# Altium footprint library AFA07S20FCA00.PcbLib: 1 footprints
Each footprint in its own frame and in the unit in brackets; x right, y up, seen from the top. Pads: shape width x height; smd on the part's side, far side on the other; paste and mask are expansions set on the pad; w line width, h text height; cw(c..) or ccw(c..) is an arc to the next point about the centre after c.
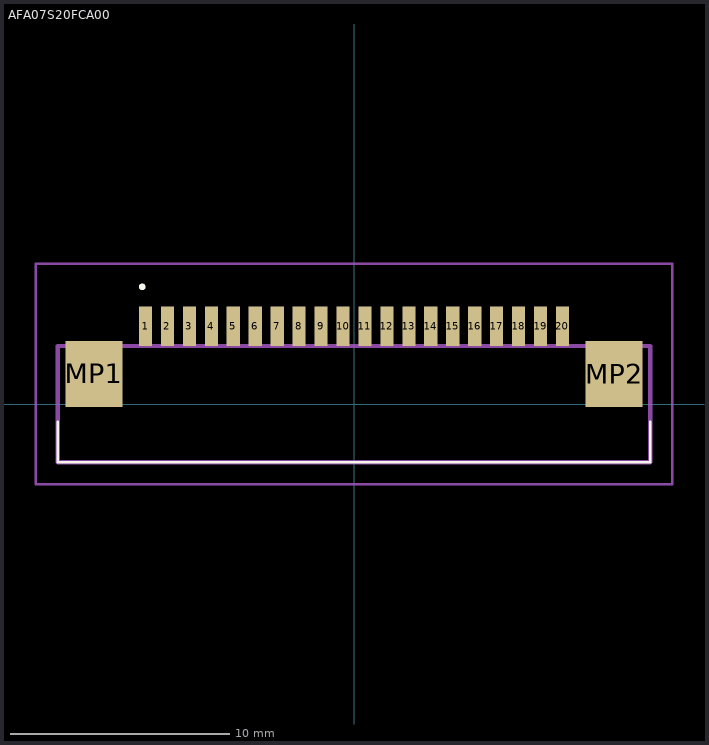
[diagram p0: the footprint, top view; thin cyan lines are the x and y axes]

## AFA07S20FCA00 [mm]
pads (22):
  rect 0.6x1.8 smd: 1(-9.5,3.546) 2(-8.5,3.546) 3(-7.5,3.546) 4(-6.5,3.546) 5(-5.5,3.546) 6(-4.5,3.546) 7(-3.5,3.546) 8(-2.5,3.546) 9(-1.5,3.546) 10(-0.5,3.546) 11(0.5,3.546) 12(1.5,3.546) 13(2.5,3.546) 14(3.5,3.546) 15(4.5,3.546) 16(5.5,3.546) 17(6.5,3.546) 18(7.5,3.546) 19(8.5,3.546) 20(9.5,3.546)
  rect 2.6x3 smd: MP1(-11.85,1.375) MP2(11.85,1.375)
Top Overlay:
  lines w0.1: -13.5,-2.65 -13.5,-0.802 ; -13.5,-2.65 -13.5,-2.65 ; -13.5,-2.65 -13.5,-0.802 ; -13.5,-2.65 13.5,-2.65 ; -13.5,-2.65 13.5,-2.65 ; -13.5,-2.65 -13.5,-2.65 ; -13.5,-0.802 -13.5,-0.802 ; 13.5,-2.65 13.5,-2.65 ; 13.5,-2.65 13.5,-2.65 ; 13.5,-2.65 13.5,-0.802 ; 13.5,-2.65 13.5,-0.802 ; 13.5,-0.802 13.5,-0.802
  lines w0.2: -9.7,5.348 -9.7,5.348 ; -9.7,5.348 ccw(c-9.65,5.348) -9.6,5.348 ; -9.7,5.348 cw(c-9.65,5.348) -9.6,5.348 ; -9.7,5.348 -9.7,5.348 ; -9.7,5.348 ccw(c-9.65,5.348) -9.6,5.348 ; -9.6,5.348 -9.6,5.348
Mechanical 15:
  lines w0.2: -13.5,-2.65 13.5,-2.65 13.5,2.65 -13.5,2.65 -13.5,-2.65
Mechanical 20:
  lines w0.1: -14.5,-3.65 14.5,-3.65 14.5,6.398 -14.5,6.398 -14.5,-3.65